# Altium footprint library M20-781.PcbLib: 1 footprints
Each footprint in its own frame and in the unit in brackets; x right, y up, seen from the top. Pads: shape width x height; smd on the part's side, far side on the other; paste and mask are expansions set on the pad; w line width, h text height; cw(c..) or ccw(c..) is an arc to the next point about the centre after c.
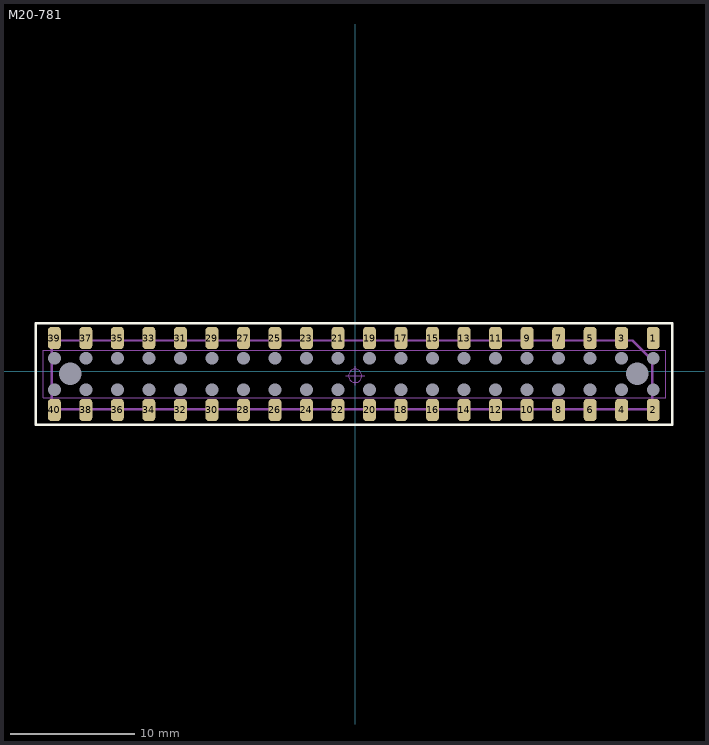
[diagram p0: the footprint, top view; thin cyan lines are the x and y axes]

## M20-781 [mm]
pads (82):
  rrect50% 1.02x1.78 smd: 1(24.017,2.665) 2(24.017,-3.135) 3(21.477,2.665) 4(21.477,-3.135) 5(18.937,2.665) 6(18.937,-3.135) 7(16.397,2.665) 8(16.397,-3.135) 9(13.857,2.665) 10(13.857,-3.135) 11(11.317,2.665) 12(11.317,-3.135) 13(8.777,2.665) 14(8.777,-3.135) 15(6.237,2.665) 16(6.237,-3.135) 17(3.697,2.665) 18(3.697,-3.135) 19(1.157,2.665) 20(1.157,-3.135) 21(-1.383,2.665) 22(-1.383,-3.135) 23(-3.923,2.665) 24(-3.923,-3.135) 25(-6.463,2.665) 26(-6.463,-3.135) 27(-9.003,2.665) 28(-9.003,-3.135) 29(-11.543,2.665) 30(-11.543,-3.135) 31(-14.083,2.665) 32(-14.083,-3.135) 33(-16.623,2.665) 34(-16.623,-3.135) 35(-19.163,2.665) 36(-19.163,-3.135) 37(-21.703,2.665) 38(-21.703,-3.135) 39(-24.243,2.665) 40(-24.243,-3.135)
  round 0 hole 1.02 mask+0: ""(-24.243,-1.505) ""(-24.243,1.035) ""(-21.703,-1.505) ""(-21.703,1.035) ""(-19.163,-1.505) ""(-19.163,1.035) ""(-16.623,-1.505) ""(-16.623,1.035) ""(-14.083,-1.505) ""(-14.083,1.035) ""(-11.543,-1.505) ""(-11.543,1.035) ""(-9.003,-1.505) ""(-9.003,1.035) ""(-6.463,-1.505) ""(-6.463,1.035) ""(-3.923,-1.505) ""(-3.923,1.035) ""(-1.383,-1.505) ""(-1.383,1.035) ""(1.157,-1.505) ""(1.157,1.035) ""(3.697,-1.505) ""(3.697,1.035) ""(6.237,-1.505) ""(6.237,1.035) ""(8.777,-1.505) ""(8.777,1.035) ""(11.317,-1.505) ""(11.317,1.035) ""(13.857,-1.505) ""(13.857,1.035) ""(16.397,-1.505) ""(16.397,1.035) ""(18.937,-1.505) ""(18.937,1.035) ""(21.477,-1.505) ""(21.477,1.035) ""(24.017,-1.505) ""(24.017,1.035)
  round 0 hole 1.8 mask+0: ""(-22.973,-0.225) ""(22.747,-0.225)
Top Overlay:
  lines w0.2: -25.743,-4.335 -21.343,-4.335 25.557,-4.335 25.557,3.865 -25.743,3.865 -25.743,-4.335
Mechanical 3:
  lines w0.2: -24.443,-3.075 23.957,-3.075 23.957,0.865 22.357,2.465 -24.043,2.465 -24.443,2.465 -24.443,-3.075
Mechanical 5:
  drawing of 165 lines, arcs and shapes, not listed
Mechanical 7:
  circle w0.05: c0,-0.381 r0.539
  lines w0.05: -0.762,-0.381 0.762,-0.381 ; 0,-1.143 0,0.381 ; -25.743,-4.335 -25.743,3.865 25.557,3.865 25.557,-4.335 -25.743,-4.335
Mechanical 9:
  text "'.Designator'" at -14.943,-0.635 h1
3D body "m20-7812045_asm.stp": height 3.55, standoff -1.4, extent -25.513,-3.835 25.287,3.365
3D body: height 1, standoff 0, extent -25.743,-4.335 25.557,3.865